# EAGLE library part W5500 (library Hardware)
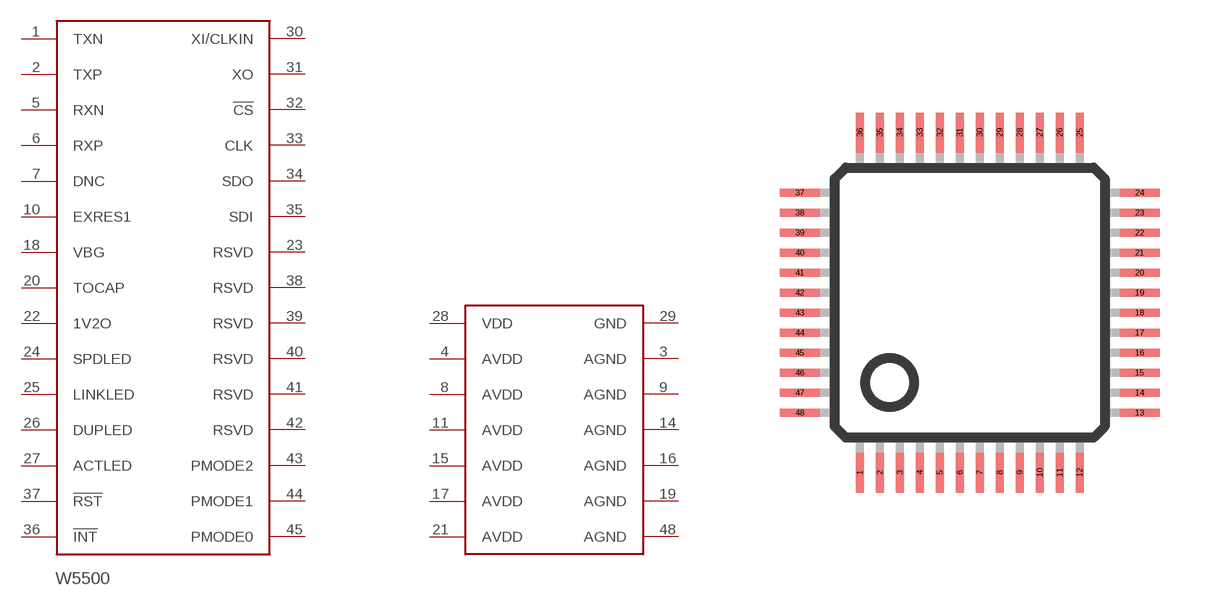
[diagram p4: symbol with the pads of LQFP48; footprint LQFP48]

Designator prefix -; gates G$1=W5500 G$2=W5500_PWR

## W5500  [LQFP48]
1  G$1:TXN
2  G$1:TXP
3  G$2:AGND
4  G$2:AVDD
5  G$1:RXN
6  G$1:RXP
7  G$1:DNC
8  G$2:AVDD
9  G$2:AGND
10  G$1:EXRES1
11  G$2:AVDD
14  G$2:AGND
15  G$2:AVDD
16  G$2:AGND
17  G$2:AVDD
18  G$1:VBG
19  G$2:AGND
20  G$1:TOCAP
21  G$2:AVDD
22  G$1:1V2O
23  G$1:RSVD
24  G$1:SPDLED
25  G$1:LINKLED
26  G$1:DUPLED
27  G$1:ACTLED
28  G$2:VDD
29  G$2:GND
30  G$1:XI/CLKIN
31  G$1:XO
32  G$1:!CS
33  G$1:CLK
34  G$1:SDO
35  G$1:SDI
36  G$1:!INT
37  G$1:!RST
38  G$1:RSVD
39  G$1:RSVD
40  G$1:RSVD
41  G$1:RSVD
42  G$1:RSVD
43  G$1:PMODE2
44  G$1:PMODE1
45  G$1:PMODE0
48  G$2:AGND

## Footprint LQFP48 (pad centres in mm)
48-pin plastic LQFP (FPT-48P-M26) www.fma.fujitsu.com/pdf/e713717.pdf
smd 0.2 x 1: 1 -2.75,-4.25; 2 -2.25,-4.25; 3 -1.75,-4.25; 4 -1.25,-4.25; 5 -0.75,-4.25; 6 -0.25,-4.25; 7 0.25,-4.25; 8 0.75,-4.25; 9 1.25,-4.25; 10 1.75,-4.25; 11 2.25,-4.25; 12 2.75,-4.25; 25 2.75,4.25; 26 2.25,4.25; 27 1.75,4.25; 28 1.25,4.25; 29 0.75,4.25; 30 0.25,4.25; 31 -0.25,4.25; 32 -0.75,4.25; 33 -1.25,4.25; 34 -1.75,4.25; 35 -2.25,4.25; 36 -2.75,4.25
smd 1 x 0.2: 13 4.25,-2.75; 14 4.25,-2.25; 15 4.25,-1.75; 16 4.25,-1.25; 17 4.25,-0.75; 18 4.25,-0.25; 19 4.25,0.25; 20 4.25,0.75; 21 4.25,1.25; 22 4.25,1.75; 23 4.25,2.25; 24 4.25,2.75; 37 -4.25,2.75; 38 -4.25,2.25; 39 -4.25,1.75; 40 -4.25,1.25; 41 -4.25,0.75; 42 -4.25,0.25; 43 -4.25,-0.25; 44 -4.25,-0.75; 45 -4.25,-1.25; 46 -4.25,-1.75; 47 -4.25,-2.25; 48 -4.25,-2.75